# Altium schematic symbol library TR3_V1.SchLib: 36 symbols
Pins are listed as number, name and electrical type; pins without a type are passive.

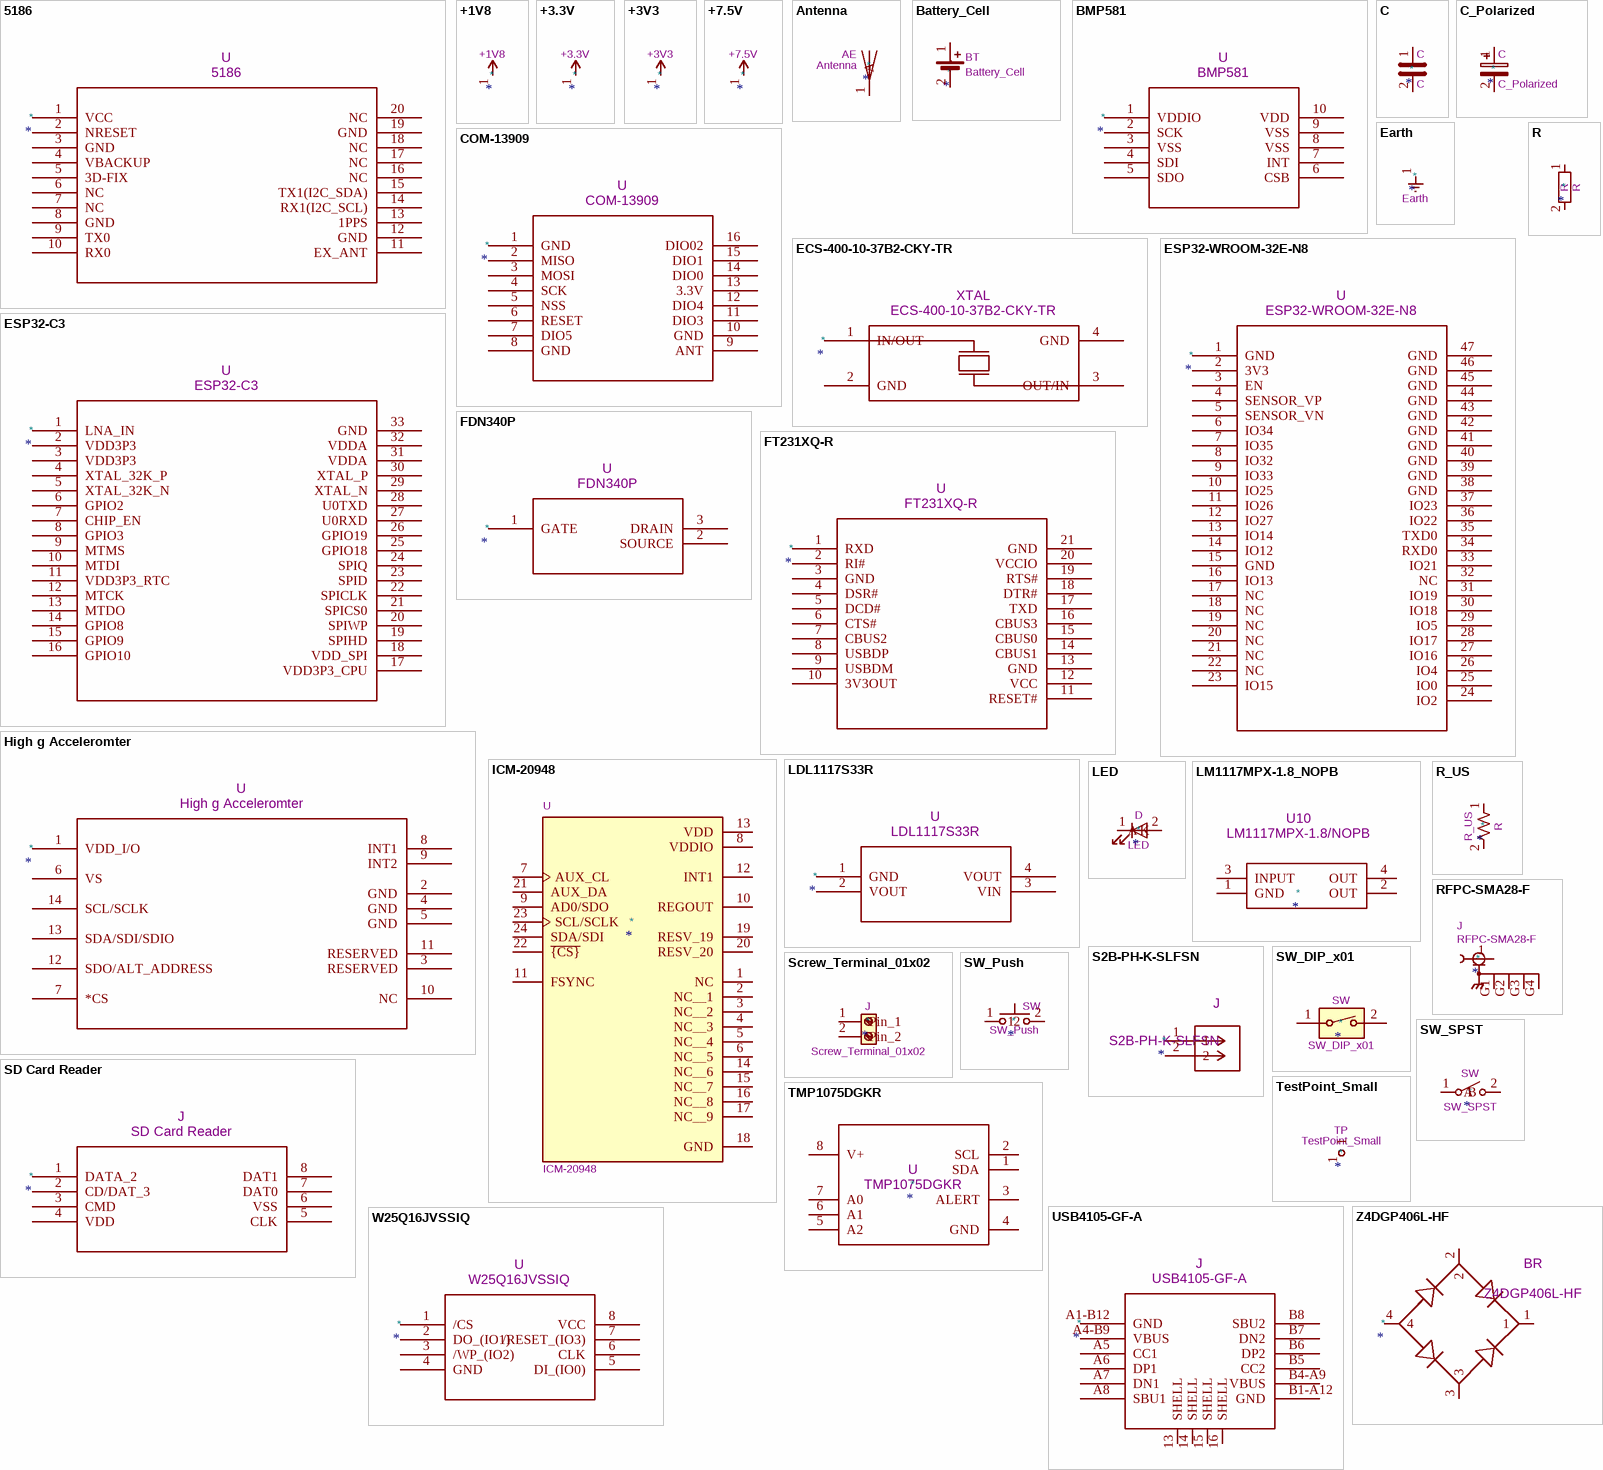
[diagram p0: symbols 5186 to Z4DGP406L-HF]

## 5186
designator *  value 5186  Reference: U
ki_fp_filters: CD-PA1616D_ADA; Footprint: CD-PA1616D_ADA; Datasheet: 5186; ki_keywords: 5186
pins: 1 VCC, 2 NRESET, 3 GND, 4 VBACKUP, 5 3D-FIX, 6 NC, 7 NC, 8 GND, 9 TX0, 10 RX0, 11 EX_ANT, 12 GND, 13 1PPS, 14 RX1(I2C_SCL), 15 TX1(I2C_SDA), 16 NC, 17 NC, 18 NC, 19 GND, 20 NC

## +1V8
designator *  value +1V8
Power symbol creates a global label with name "+1V8"; Reference: #PWR; ki_keywords: global power; Description_: Power symbol creates a global label with name "+1V8"
pins: 1

## +3.3V
designator *  value +3.3V
Power symbol creates a global label with name "+3.3V"; Reference: #PWR; ki_keywords: global power; Description_: Power symbol creates a global label with name "+3.3V"
pins: 1

## +3V3
designator *  value +3V3
Power symbol creates a global label with name "+3V3"; Reference: #PWR; ki_keywords: global power; Description_: Power symbol creates a global label with name "+3V3"
pins: 1 +3V3

## +7.5V
designator *  value +7.5V
Power symbol creates a global label with name "+7.5V"; Reference: #PWR; ki_keywords: global power; Description_: Power symbol creates a global label with name "+7.5V"
pins: 1 +7.5V

## Antenna
designator *  value Antenna  Reference: AE
Antenna; Datasheet: ~; Description_: Antenna; ki_keywords: antenna
pins: 1 A

## Battery_Cell
designator *  value Battery_Cell  Reference: BT
Single-cell battery; ki_keywords: battery cell; Datasheet: ~; Description_: Single-cell battery
pins: 1 +, 2 -

## BMP581
designator *  value BMP581  Reference: U
ki_fp_filters: QFN10_BMP581_BOS QFN10_BMP581_BOS-M QFN10_BMP581_BOS-L; Footprint: QFN10_BMP581_BOS; Datasheet: BMP581; ki_keywords: BMP581
pins: 1 VDDIO, 2 SCK, 3 VSS, 4 SDI, 5 SDO, 6 CSB, 7 INT, 8 VSS, 9 VSS, 10 VDD

## C
designator *  value C
Unpolarized capacitor; ki_keywords: cap capacitor; ki_fp_filters: C_*; Reference: C; Datasheet: ~; Description_: Unpolarized capacitor
pins: 1, 2

## C_Polarized
designator *  value C_Polarized  Reference: C
Polarized capacitor; ki_keywords: cap capacitor; ki_fp_filters: CP_*; Datasheet: ~; Description_: Polarized capacitor
pins: 1, 2

## COM-13909
designator *  value COM-13909  Reference: U
ki_fp_filters: RFM69HCW_SPK RFM69HCW_SPK-M RFM69HCW_SPK-L; Footprint: RFM69HCW_SPK; Datasheet: COM-13909; ki_keywords: COM-13909
pins: 1 GND, 2 MISO, 3 MOSI, 4 SCK, 5 NSS, 6 RESET, 7 DIO5, 8 GND, 9 ANT, 10 GND, 11 DIO3, 12 DIO4, 13 3.3V, 14 DIO0, 15 DIO1, 16 DIO02

## Earth
designator *  value Earth
Power symbol creates a global label with name "Earth"; Reference: #PWR; ki_keywords: global ground gnd; Datasheet: ~; Description_: Power symbol creates a global label with name "Earth"
pins: 1

## ECS-400-10-37B2-CKY-TR
designator *  value ECS-400-10-37B2-CKY-TR  Reference: XTAL
ki_fp_filters: ECX-1637B2_ECS ECX-1637B2_ECS-M ECX-1637B2_ECS-L; Footprint: ECX-1637B2_ECS; Datasheet: ECS-400-10-37B2-CKY-TR; ki_keywords: ECS-400-10-37B2-CKY-TR
pins: 1 IN/OUT, 2 GND, 3 OUT/IN, 4 GND

## ESP32-C3
designator *  value ESP32-C3  Reference: U
ki_fp_filters: QFN32_5X5_EXP QFN32_5X5_EXP-M QFN32_5X5_EXP-L; Footprint: QFN32_5X5_EXP; Datasheet: ESP32-C3; ki_keywords: ESP32-C3
pins: 1 LNA_IN, 2 VDD3P3, 3 VDD3P3, 4 XTAL_32K_P, 5 XTAL_32K_N, 6 GPIO2, 7 CHIP_EN, 8 GPIO3, 9 MTMS, 10 MTDI, 11 VDD3P3_RTC, 12 MTCK, 13 MTDO, 14 GPIO8, 15 GPIO9, 16 GPIO10, 17 VDD3P3_CPU, 18 VDD_SPI, 19 SPIHD, 20 SPIWP, 21 SPICS0, 22 SPICLK, 23 SPID, 24 SPIQ, 25 GPIO18, 26 GPIO19, 27 U0RXD, 28 U0TXD, 29 XTAL_N, 30 XTAL_P, 31 VDDA, 32 VDDA, 33 GND

## ESP32-WROOM-32E-N8
designator *  value ESP32-WROOM-32E-N8  Reference: U
Datasheet: ESP32-WROOM-32E-N8; ki_keywords: ESP32-WROOM-32E-N8
pins: 1 GND, 2 3V3, 3 EN, 4 SENSOR_VP, 5 SENSOR_VN, 6 IO34, 7 IO35, 8 IO32, 9 IO33, 10 IO25, 11 IO26, 12 IO27, 13 IO14, 14 IO12, 15 GND, 16 IO13, 17 NC, 18 NC, 19 NC, 20 NC, 21 NC, 22 NC, 23 IO15, 24 IO2, 25 IO0, 26 IO4, 27 IO16, 28 IO17, 29 IO5, 30 IO18, 31 IO19, 32 NC, 33 IO21, 34 RXD0, 35 TXD0, 36 IO22, 37 IO23, 38 GND, 39 GND, 40 GND, 41 GND, 42 GND, 43 GND, 44 GND, 45 GND, 46 GND, 47 GND

## FDN340P
designator *  value FDN340P  Reference: U
ki_fp_filters: SOT-23_ONS SOT-23_ONS-M SOT-23_ONS-L; Footprint: SOT-23_ONS; Datasheet: FDN340P; ki_keywords: FDN340P
pins: 1 GATE, 2 SOURCE, 3 DRAIN

## FT231XQ-R
designator *  value FT231XQ-R  Reference: U
ki_fp_filters: QFN20_FT231XQ_FTD QFN20_FT231XQ_FTD-M QFN20_FT231XQ_FTD-L; Footprint: QFN20_FT231XQ_FTD; Datasheet: FT231XQ-R; ki_keywords: FT231XQ-R
pins: 1 RXD, 2 RI#, 3 GND, 4 DSR#, 5 DCD#, 6 CTS#, 7 CBUS2, 8 USBDP, 9 USBDM, 10 3V3OUT, 11 RESET#, 12 VCC, 13 GND, 14 CBUS1, 15 CBUS0, 16 CBUS3, 17 TXD, 18 DTR#, 19 RTS#, 20 VCCIO, 21 GND

## High g Acceleromter
designator *  value High g Acceleromter  Reference: U
ki_keywords: ADXL375BCCZ; ki_fp_filters: LGA_CC-14-1_ADI LGA_CC-14-1_ADI-M LGA_CC-14-1_ADI-L; Footprint: LGA_CC-14-1_ADI; Datasheet: ADXL375BCCZ
pins: 1 VDD_I/O, 2 GND, 3 RESERVED, 4 GND, 5 GND, 6 VS, 7 *CS, 8 INT1, 9 INT2, 10 NC, 11 RESERVED, 12 SDO/ALT_ADDRESS, 13 SDA/SDI/SDIO, 14 SCL/SCLK

## ICM-20948
designator *  value ICM-20948  Reference: U
MANUFACTURER: TDK InvenSense; Footprint: ICM-20948:QFN40P300X300X105-24N; PARTREV: 1.3; MAXIMUM_PACKAGE_HEIGHT: 1.05 mm; STANDARD: IPC 7351B
pins: 1 NC, 2 NC__1, 3 NC__2, 4 NC__3, 5 NC__4, 6 NC__5, 7 AUX_CL, 8 VDDIO, 9 AD0/SDO, 10 REGOUT, 11 FSYNC, 12 INT1, 13 VDD, 14 NC__6, 15 NC__7, 16 NC__8, 17 NC__9, 18 GND, 19 RESV_19, 20 RESV_20, 21 AUX_DA, 22 ~{{CS}}, 23 SCL/SCLK, 24 SDA/SDI

## LDL1117S33R
designator *  value LDL1117S33R  Reference: U
ki_fp_filters: SOT223_STM SOT223_STM-M SOT223_STM-L; Footprint: SOT223_STM; Datasheet: LDL1117S33R; ki_keywords: LDL1117S33R
pins: 1 GND, 2 VOUT, 3 VIN, 4 VOUT

## LED
designator *  value LED  Reference: D
Light emitting diode; ki_keywords: LED diode; ki_fp_filters: LED* LED_SMD:* LED_THT:*; Datasheet: ~; Description_: Light emitting diode
pins: 1 K, 2 A

## LM1117MPX-1.8_NOPB
designator *  value LM1117MPX-1.8/NOPB  Reference: U10
ki_fp_filters: DCY0004A_N DCY0004A_M DCY0004A_L; Footprint: DCY0004A_N; Datasheet: LM1117MPX-1.8/NOPB; ki_keywords: LM1117MPX-1.8/NOPB
pins: 1 GND, 2 OUT, 3 INPUT, 4 OUT

## R
designator *  value R
Resistor; ki_keywords: R res resistor; ki_fp_filters: R_*; Reference: R; Datasheet: ~; Description_: Resistor
pins: 1, 2

## R_US
designator *  value R_US  Reference: R
Resistor, US symbol; ki_keywords: R res resistor; ki_fp_filters: R_*; Datasheet: ~; Description_: Resistor, US symbol
pins: 1, 2

## RFPC-SMA28-F
designator *  value RFPC-SMA28-F  Reference: J
MANUFACTURER: GradConn; Footprint: RFPC-SMA28-F:GRADCONN_RFPC-SMA28-F; PARTREV: 1.0; STANDARD: Manufacturer Recommendations; MAXIMUM_PACKAGE_HEIGHT: 9.8mm
pins: 1, G1, G2, G3, G4

## S2B-PH-K-SLFSN
designator *  value S2B-PH-K-SLFSN  Reference: J
ki_keywords: S2B-PH-K-S(LF)(SN); ki_fp_filters: CONN_S2B-PH-K-S_JST; Footprint: CONN_S2B-PH-K-S_JST; Datasheet: S2B-PH-K-SLFSN
pins: 1, 2
1 alternate drawing of the same symbol

## Screw_Terminal_01x02
designator *  value Screw_Terminal_01x02  Reference: J
Generic screw terminal, single row, 01x02, script generated (kicad-library-utils/schlib/autogen/connector/); ki_fp_filters: TerminalBlock*:*; Datasheet: ~; Description_: Generic screw terminal, single row, 01x02, script generated (kicad-library-utils/schlib/autogen/connector/); ki_keywords: screw terminal
pins: 1 Pin_1, 2 Pin_2

## SD Card Reader
designator *  value SD Card Reader  Reference: J
ki_keywords: 5031821852; ki_fp_filters: 503182-1852_MOL; Footprint: 503182-1852_MOL; Datasheet: 5031821852
pins: 1 DATA_2, 2 CD/DAT_3, 3 CMD, 4 VDD, 5 CLK, 6 VSS, 7 DAT0, 8 DAT1

## SW_DIP_x01
designator *  value SW_DIP_x01  Reference: SW
1x DIP Switch, Single Pole Single Throw (SPST) switch, small symbol; ki_fp_filters: SW?DIP?x1*; Datasheet: ~; Description_: 1x DIP Switch, Single Pole Single Throw (SPST) switch, small symbol; ki_keywords: dip switch
pins: 1, 2

## SW_Push
designator *  value SW_Push  Reference: SW
Push button switch, generic, two pins; ki_keywords: switch normally-open pushbutton push-button; Datasheet: ~; Description_: Push button switch, generic, two pins
pins: 1, 2

## SW_SPST
designator *  value SW_SPST  Reference: SW
Single Pole Single Throw (SPST) switch; ki_keywords: switch lever; Datasheet: ~; Description_: Single Pole Single Throw (SPST) switch
pins: 1 A, 2 B

## TestPoint_Small
designator *  value TestPoint_Small  Reference: TP
test point; ki_keywords: test point tp; ki_fp_filters: Pin* Test*; Datasheet: ~; Description_: test point
pins: 1

## TMP1075DGKR
designator *  value TMP1075DGKR  Reference: U
ki_fp_filters: DGK0008A_N DGK0008A_M DGK0008A_L; Footprint: DGK0008A_N; Datasheet: TMP1075DGKR; ki_keywords: TMP1075DGKR
pins: 1 SDA, 2 SCL, 3 ALERT, 4 GND, 5 A2, 6 A1, 7 A0, 8 V+

## USB4105-GF-A
designator *  value USB4105-GF-A  Reference: J
ki_fp_filters: USB4105_GCT; Footprint: USB4105_GCT; Datasheet: USB4105-GF-A; ki_keywords: USB4105-GF-A
pins: 13 SHELL, 14 SHELL, 15 SHELL, 16 SHELL, A1-B12 GND, A4-B9 VBUS, A5 CC1, A6 DP1, A7 DN1, A8 SBU1, B1-A12 GND, B4-A9 VBUS, B5 CC2, B6 DP2, B7 DN2, B8 SBU2

## W25Q16JVSSIQ
designator *  value W25Q16JVSSIQ  Reference: U
ki_fp_filters: W25Q16JVSSIQ_WIN W25Q16JVSSIQ_WIN-M W25Q16JVSSIQ_WIN-L; Footprint: W25Q16JVSSIQ_WIN; Datasheet: W25Q16JVSSIQ; ki_keywords: W25Q16JVSSIQ
pins: 1 /CS, 2 DO_(IO1), 3 /WP_(IO2), 4 GND, 5 DI_(IO0), 6 CLK, 7 /RESET_(IO3), 8 VCC

## Z4DGP406L-HF
designator *  value Z4DGP406L-HF  Reference: BR
ki_fp_filters: Z4-D_CIP Z4-D_CIP-M Z4-D_CIP-L; Footprint: Z4-D_CIP; Datasheet: Z4DGP406L-HF; ki_keywords: Z4DGP406L-HF
pins: 1, 2, 3, 4